# EAGLE library part CY8CKIT-059_TARGET_3 (library CYKIT)
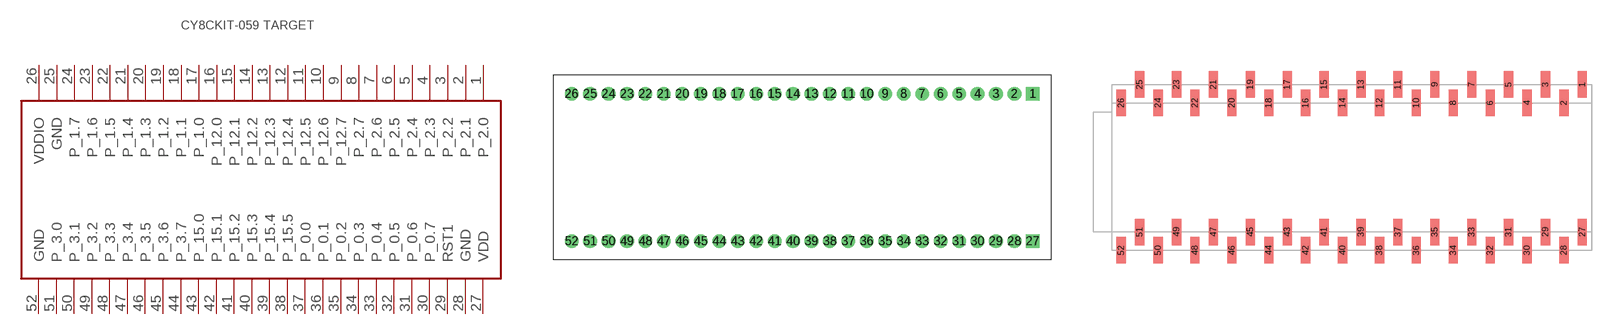
[diagram p4: symbol with the pads of CY8CKIT-059_TARGET_3; footprints CY8CKIT-059_TARGET_3, CY8CKIT-059_TARGET_SMD]

Designator prefix -

## CY8CKIT-059_TARGET_3  [CY8CKIT-059_TARGET_3]
1  P_2.0
2  P_2.1
3  P_2.2
4  P_2.3
5  P_2.4
6  P_2.5
7  P_2.6
8  P_2.7
9  P_12.7
10  P_12.6
11  P_12.5
12  P_12.4
13  P_12.3
14  P_12.2
15  P_12.1
16  P_12.0
17  P_1.0
18  P_1.1
19  P_1.2
20  P_1.3
21  P_1.4
22  P_1.5
23  P_1.6
24  P_1.7
25  GND
26  VDDIO
27  VDD
28  GND
29  RST1
30  P_0.7
31  P_0.6
32  P_0.5
33  P_0.4
34  P_0.3
35  P_0.2
36  P_0.1
37  P_0.0
38  P_15.5
39  P_15.4
40  P_15.3
41  P_15.2
42  P_15.1
43  P_15.0
44  P_3.7
45  P_3.6
46  P_3.5
47  P_3.4
48  P_3.3
49  P_3.2
50  P_3.1
51  P_3.0
52  GND

## CY8CKIT-059_TARGET_3SMD  [CY8CKIT-059_TARGET_SMD]
Pads as for CY8CKIT-059_TARGET_3

## Footprint CY8CKIT-059_TARGET_3 (pad centres in mm)
drill 1.016 pad 1.876 square: 1 30.48,8.89; 27 30.48,-11.43
drill 1.016 pad 1.876: 2 27.94,8.89; 3 25.4,8.89; 4 22.86,8.89; 5 20.32,8.89; 6 17.78,8.89; 7 15.24,8.89; 8 12.7,8.89; 9 10.16,8.89; 10 7.62,8.89; 11 5.08,8.89; 12 2.54,8.89; 13 0,8.89; 14 -2.54,8.89; 15 -5.08,8.89; 16 -7.62,8.89; 17 -10.16,8.89; 18 -12.7,8.89; 19 -15.24,8.89; 20 -17.78,8.89; 21 -20.32,8.89; 22 -22.86,8.89; 23 -25.4,8.89; 24 -27.94,8.89; 25 -30.48,8.89; 26 -33.02,8.89; 28 27.94,-11.43; 29 25.4,-11.43; 30 22.86,-11.43; 31 20.32,-11.43; 32 17.78,-11.43; 33 15.24,-11.43; 34 12.7,-11.43; 35 10.16,-11.43; 36 7.62,-11.43; 37 5.08,-11.43; 38 2.54,-11.43; 39 0,-11.43; 40 -2.54,-11.43; 41 -5.08,-11.43; 42 -7.62,-11.43; 43 -10.16,-11.43; 44 -12.7,-11.43; 45 -15.24,-11.43; 46 -17.78,-11.43; 47 -20.32,-11.43; 48 -22.86,-11.43; 49 -25.4,-11.43; 50 -27.94,-11.43; 51 -30.48,-11.43; 52 -33.02,-11.43

## Footprint CY8CKIT-059_TARGET_SMD (pad centres in mm)
smd 1.27 x 3.65: 1 63.5,21.59; 2 60.96,19.05; 3 58.42,21.59; 4 55.88,19.05; 5 53.34,21.59; 6 50.8,19.05; 7 48.26,21.59; 8 45.72,19.05; 9 43.18,21.59; 10 40.64,19.05; 11 38.1,21.59; 12 35.56,19.05; 13 33.02,21.59; 14 30.48,19.05; 15 27.94,21.59; 16 25.4,19.05; 17 22.86,21.59; 18 20.32,19.05; 19 17.78,21.59; 20 15.24,19.05; 21 12.7,21.59; 22 10.16,19.05; 23 7.62,21.59; 24 5.08,19.05; 25 2.54,21.59; 26 0,19.05; 27 63.5,1.27; 28 60.96,-1.27; 29 58.42,1.27; 30 55.88,-1.27; 31 53.34,1.27; 32 50.8,-1.27; 33 48.26,1.27; 34 45.72,-1.27; 35 43.18,1.27; 36 40.64,-1.27; 37 38.1,1.27; 38 35.56,-1.27; 39 33.02,1.27; 40 30.48,-1.27; 41 27.94,1.27; 42 25.4,-1.27; 43 22.86,1.27; 44 20.32,-1.27; 45 17.78,1.27; 46 15.24,-1.27; 47 12.7,1.27; 48 10.16,-1.27; 49 7.62,1.27; 50 5.08,-1.27; 51 2.54,1.27; 52 0,-1.27